# Altium footprint library LM2596_DC_DC.PcbLib: 1 footprints
Each footprint in its own frame and in the unit in brackets; x right, y up, seen from the top. Pads: shape width x height; smd on the part's side, far side on the other; paste and mask are expansions set on the pad; w line width, h text height; cw(c..) or ccw(c..) is an arc to the next point about the centre after c.
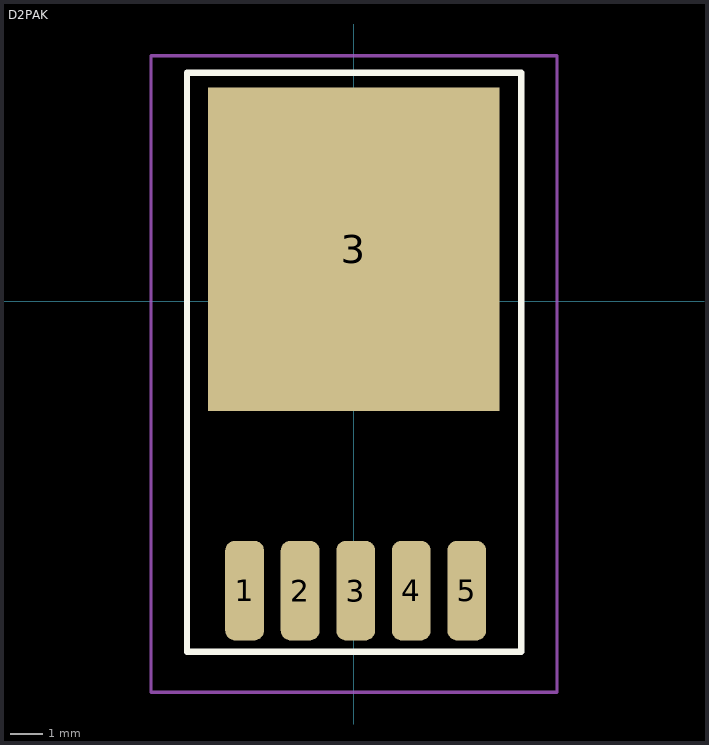
[diagram p0: the footprint, top view; thin cyan lines are the x and y axes]

## D2PAK [mm]
pads (6):
  rrect50% 1.2x3.075 smd: 1(-3.373,-8.933) 2(-1.658,-8.933) 3(0.056,-8.933) 4(1.771,-8.933) 5(3.485,-8.933)
  rect 9x10 smd: 3(0.003,1.607)
Top Overlay:
  lines w0.2: -5.152,-10.822 -5.152,7.051 5.163,7.051 5.163,-10.822 -5.149,-10.822
Mechanical 15:
  lines w0.1: -1.5,0 1.5,0 ; 0,-1.5 0,1.5 ; -6.26,-12.067 -6.26,-4.5 -6.26,7.578 6.269,7.578 6.269,-12.067 -6.26,-12.067
3D body "TO263-5-1.stp": height 4.22, standoff 0, extent -4.911,-9.561 4.911,5.041